# Altium integrated library LM2776.IntLib: 1 symbol
Pins are listed as number, name and electrical type; pins without a type are passive.

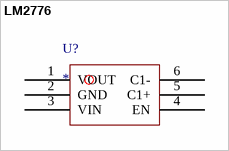
[diagram p0: symbol LM2776]

## LM2776
designator U?
footprint LM2776(OT95P280X145-6N) (SOT23, 6-Leads, Body 2.90x2.80mm, Pitch 0.95mm, IPC Medium Density)
pins: 1 VOUT, 2 GND, 3 VIN, 4 EN, 5 C1+, 6 C1-